# Altium footprint library PINPAD.PCBLIB: 151 footprints (part 9 of 10)
Each footprint in its own frame and in the unit in brackets; x right, y up, seen from the top. Pads: shape width x height; smd on the part's side, far side on the other; paste and mask are expansions set on the pad; w line width, h text height; cw(c..) or ccw(c..) is an arc to the next point about the centre after c.
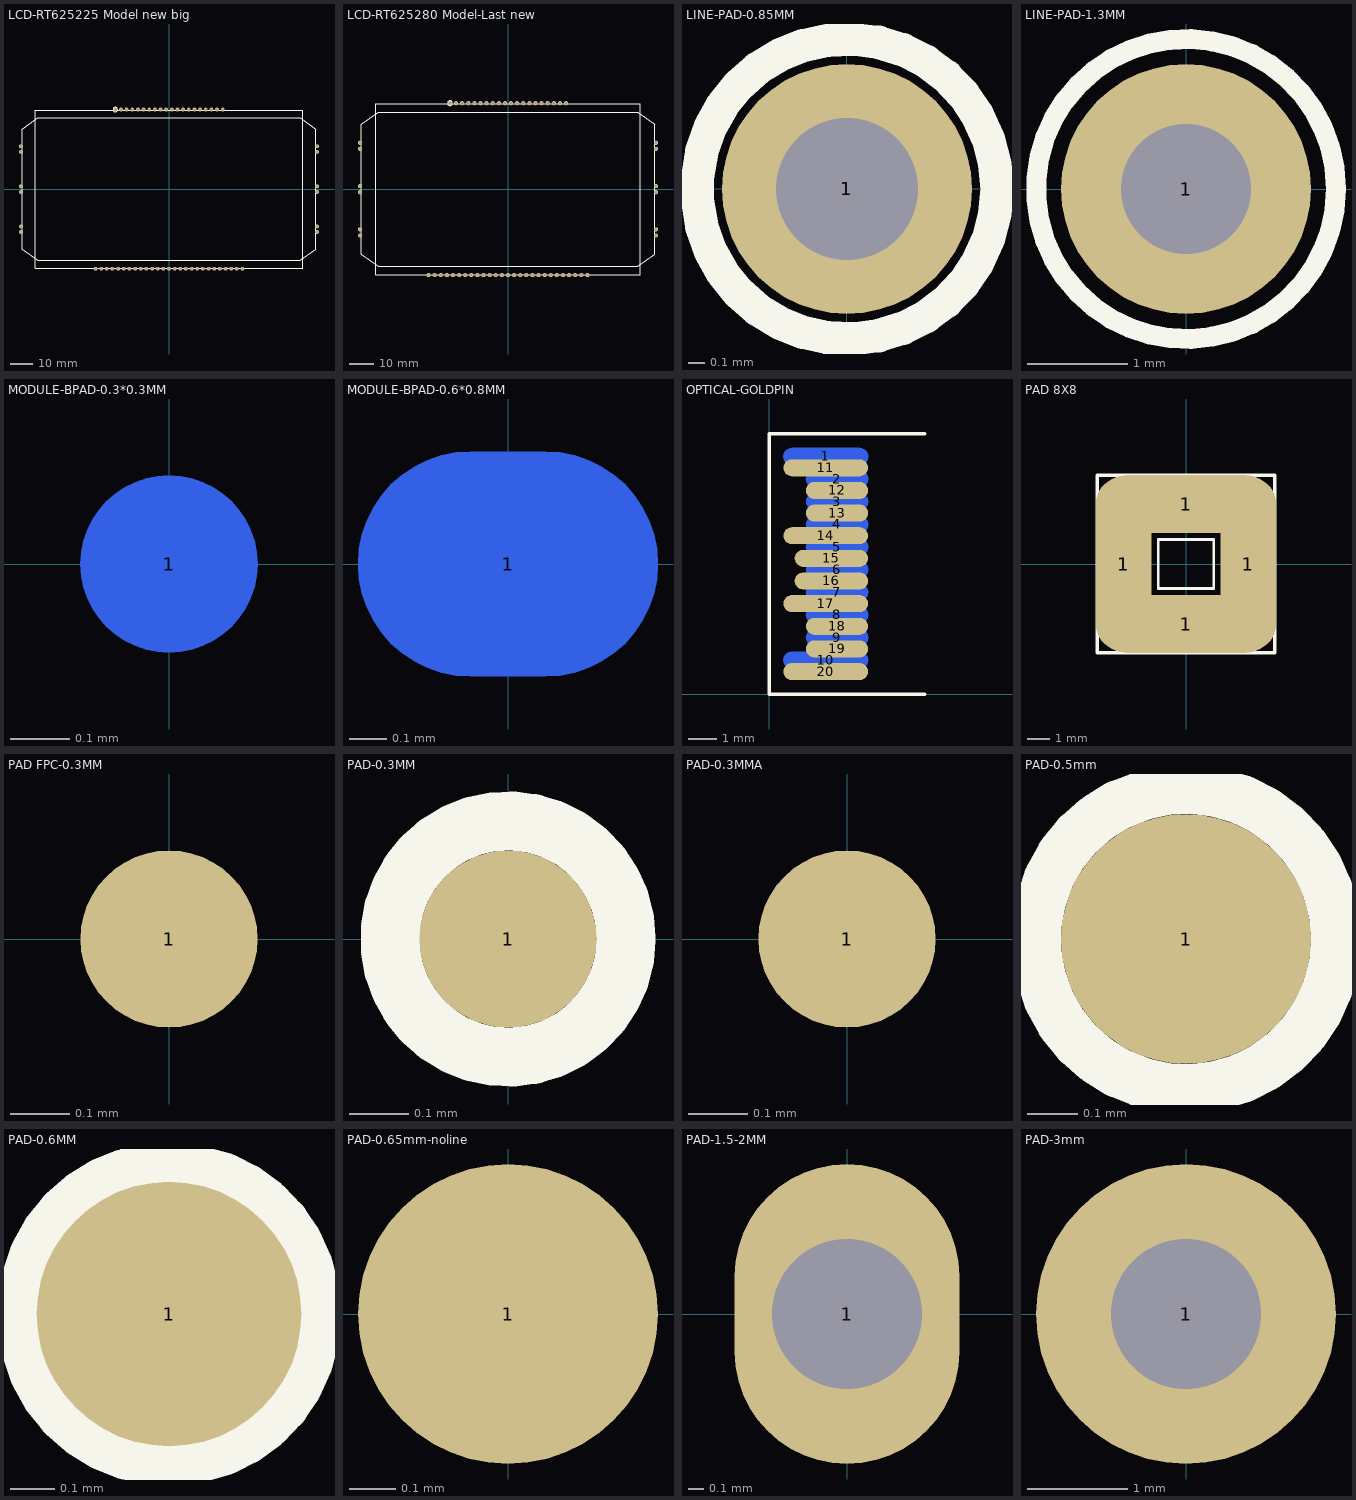
[diagram p8: the footprints below, top view; thin cyan lines are the x and y axes]

## LCD-RT625225 Model new big [mm] "LCD-RT625225 Model new big"
pads (59):
  round 1.75 hole 0.9: 1(-24.13,35.75) 2(-21.59,35.75) 3(-19.05,35.75) 4(-16.51,35.75) 5(-13.97,35.75) 6(-11.43,35.75) 7(-8.89,35.75) 8(-6.35,35.75) 9(-3.81,35.75) 10(-1.27,35.75) 11(1.27,35.75) 12(3.81,35.75) 13(6.35,35.75) 14(8.89,35.75) 15(11.43,35.75) 16(13.97,35.75) 17(16.51,35.75) 18(19.05,35.75) 19(21.59,35.75) 20(24.13,35.75) 21(-33.02,-35.75) 22(-30.48,-35.75) 23(-27.94,-35.75) 24(-25.4,-35.75) 25(-22.86,-35.75) 26(-20.32,-35.75) 27(-17.78,-35.75) 28(-15.24,-35.75) 29(-12.7,-35.75) 30(-10.16,-35.75) 31(-7.62,-35.75) 32(-5.08,-35.75) 33(-2.54,-35.75) 34(0,-35.75) 35(2.54,-35.75) 36(5.08,-35.75) 37(7.62,-35.75) 38(10.16,-35.75) 39(12.7,-35.75) 40(15.24,-35.75) 41(17.78,-35.75) 42(20.32,-35.75) 43(22.86,-35.75) 44(25.4,-35.75) 45(27.94,-35.75) 46(30.48,-35.75) 47(33.02,-35.75) L1(-66.5,19.27) L2(-66.5,16.73) L3(-66.5,1.27) L4(-66.5,-1.27) L5(-66.5,-16.73) L6(-66.5,-19.27) L7(66.5,19.27) L8(66.5,16.73) L9(66.5,1.27) L10(66.5,-1.27) L11(66.5,-16.73) L12(66.5,-19.27)
TopOverlay:
  circle w0.2: c-24.125,35.75 r1
  lines w0.2: -66,-27 -59,-32 59,-32 66,-27 66,27 59,32 -59,32 -66,27 -66,-27 ; -60,-35.5 -60,35.5 60,35.5 60,-35.5 -60,-35.5

## LCD-RT625280 Model-Last new [mm] "LCD-RT625280 Model-Last new"
pads (59):
  round 1.75 hole 0.9: 1(-24.13,35.75) 2(-21.59,35.75) 3(-19.05,35.75) 4(-16.51,35.75) 5(-13.97,35.75) 6(-11.43,35.75) 7(-8.89,35.75) 8(-6.35,35.75) 9(-3.81,35.75) 10(-1.27,35.75) 11(1.27,35.75) 12(3.81,35.75) 13(6.35,35.75) 14(8.89,35.75) 15(11.43,35.75) 16(13.97,35.75) 17(16.51,35.75) 18(19.05,35.75) 19(21.59,35.75) 20(24.13,35.75) 21(-33.02,-35.75) 22(-30.48,-35.75) 23(-27.94,-35.75) 24(-25.4,-35.75) 25(-22.86,-35.75) 26(-20.32,-35.75) 27(-17.78,-35.75) 28(-15.24,-35.75) 29(-12.7,-35.75) 30(-10.16,-35.75) 31(-7.62,-35.75) 32(-5.08,-35.75) 33(-2.54,-35.75) 34(0,-35.75) 35(2.54,-35.75) 36(5.08,-35.75) 37(7.62,-35.75) 38(10.16,-35.75) 39(12.7,-35.75) 40(15.24,-35.75) 41(17.78,-35.75) 42(20.32,-35.75) 43(22.86,-35.75) 44(25.4,-35.75) 45(27.94,-35.75) 46(30.48,-35.75) 47(33.02,-35.75) L1(-61.5,19.27) L2(-61.5,16.73) L3(-61.5,1.27) L4(-61.5,-1.27) L5(-61.5,-16.73) L6(-61.5,-19.27) L7(61.5,19.27) L8(61.5,16.73) L9(61.5,1.27) L10(61.5,-1.27) L11(61.5,-16.73) L12(61.5,-19.27)
TopOverlay:
  circle w0.2: c-24.125,35.75 r1
  lines w0.2: -61,-27 -54,-32 54,-32 61,-27 61,27 54,32 -54,32 -61,27 ; -61,-27 -61,27 ; -61,-27 -61,27 ; -55,-35.5 -55,35.5 55,35.5 55,-35.5 -55,-35.5

## LINE-PAD-0.85MM [mm]
pads (1):
  round 1.5 hole 0.85: 1(0,0)
TopOverlay:
  circle w0.2: c0,0 r0.9

## LINE-PAD-1.3MM [mm]
pads (1):
  round 2.5 hole 1.3: 1(0,0)
TopOverlay:
  circle w0.2: c0,0 r1.5

## MODULE-BPAD-0.3*0.3MM [mm] "MODULE-BPAD-0.3*0.3MM"
pads (1):
  round 0.3 smd far side: 1(0,0)

## MODULE-BPAD-0.6*0.8MM [mm]
pads (1):
  oval 0.8x0.6 smd far side: 1(0,0)

## OPTICAL-GOLDPIN [mm]
pads (20):
  oval 3x0.6 smd far side: 1(2,8.4) 10(2,1.2)
  oval 2.2x0.6 smd far side: 2(2.4,7.6) 3(2.4,6.8) 4(2.4,6) 5(2.4,5.2) 6(2.4,4.4) 7(2.4,3.6) 8(2.4,2.8) 9(2.4,2)
  oval 3x0.6 smd: 11(2,8) 14(2,5.6) 17(2,3.2) 20(2,0.8)
  oval 2.2x0.6 smd: 12(2.4,7.2) 13(2.4,6.4) 18(2.4,2.4) 19(2.4,1.6)
  oval 2.6x0.6 smd: 15(2.2,4.8) 16(2.2,4)
TopOverlay:
  lines w0.127: 5.5,0 0,0 0,9.2 5.5,9.2
BottomOverlay:
  lines w0.127: 5.5,0 0,0 0,9.2 5.5,9.2

## PAD 8X8 [mm]
pads (4):
  oval 2.5x7.9 smd: 1(-2.8,0) 1(2.8,0)
  oval 8x2.6 smd: 1(0,-2.7) 1(0,2.7)
TopOverlay:
  lines w0.127: -1.25,-1.1 1.25,-1.1 1.25,1.1 -1.25,1.1 -1.25,-1.1
  lines w0.152: -4,-4 4,-4 4,4 -4,4 -4,-4

## PAD FPC-0.3MM [mm] "PAD FPC-0.3MM"
pads (1):
  round 0.3 smd mask+0.05: 1(0,0)

## PAD-0.3MM [mm] "PAD-0.3MM"
pads (1):
  round 0.3 smd: 1(0,0)
TopOverlay:
  circle w0.1: c0,0 r0.2

## PAD-0.3MMA [mm] "PAD-0.3MMA"
pads (1):
  round 0.3 smd: 1(0,0)

## PAD-0.5mm [mm] "PAD-0.5mm"
pads (1):
  round 0.5 smd: 1(0,0)
TopOverlay:
  circle w0.1: c0,0 r0.3

## PAD-0.6MM [mm] "PAD-0.6MM"
pads (1):
  round 0.6 smd: 1(0,0)
TopOverlay:
  circle w0.1: c0,0 r0.34

## PAD-0.65mm-noline [mm] "PAD-0.65mm-noline"
pads (1):
  round 0.65 smd: 1(0,0)

## PAD-1.5-2MM [mm] "PAD-1.5-2MM"
pads (1):
  oval 1.5x2 hole 1: 1(0,0)

## PAD-3mm [mm] "PAD-3mm"
pads (1):
  round 3 hole 1.5: 1(0,0)